# EAGLE library part 057-060- (library con-panduit)
CONNECTOR 60-pin series 057 contact pc board low profile headers
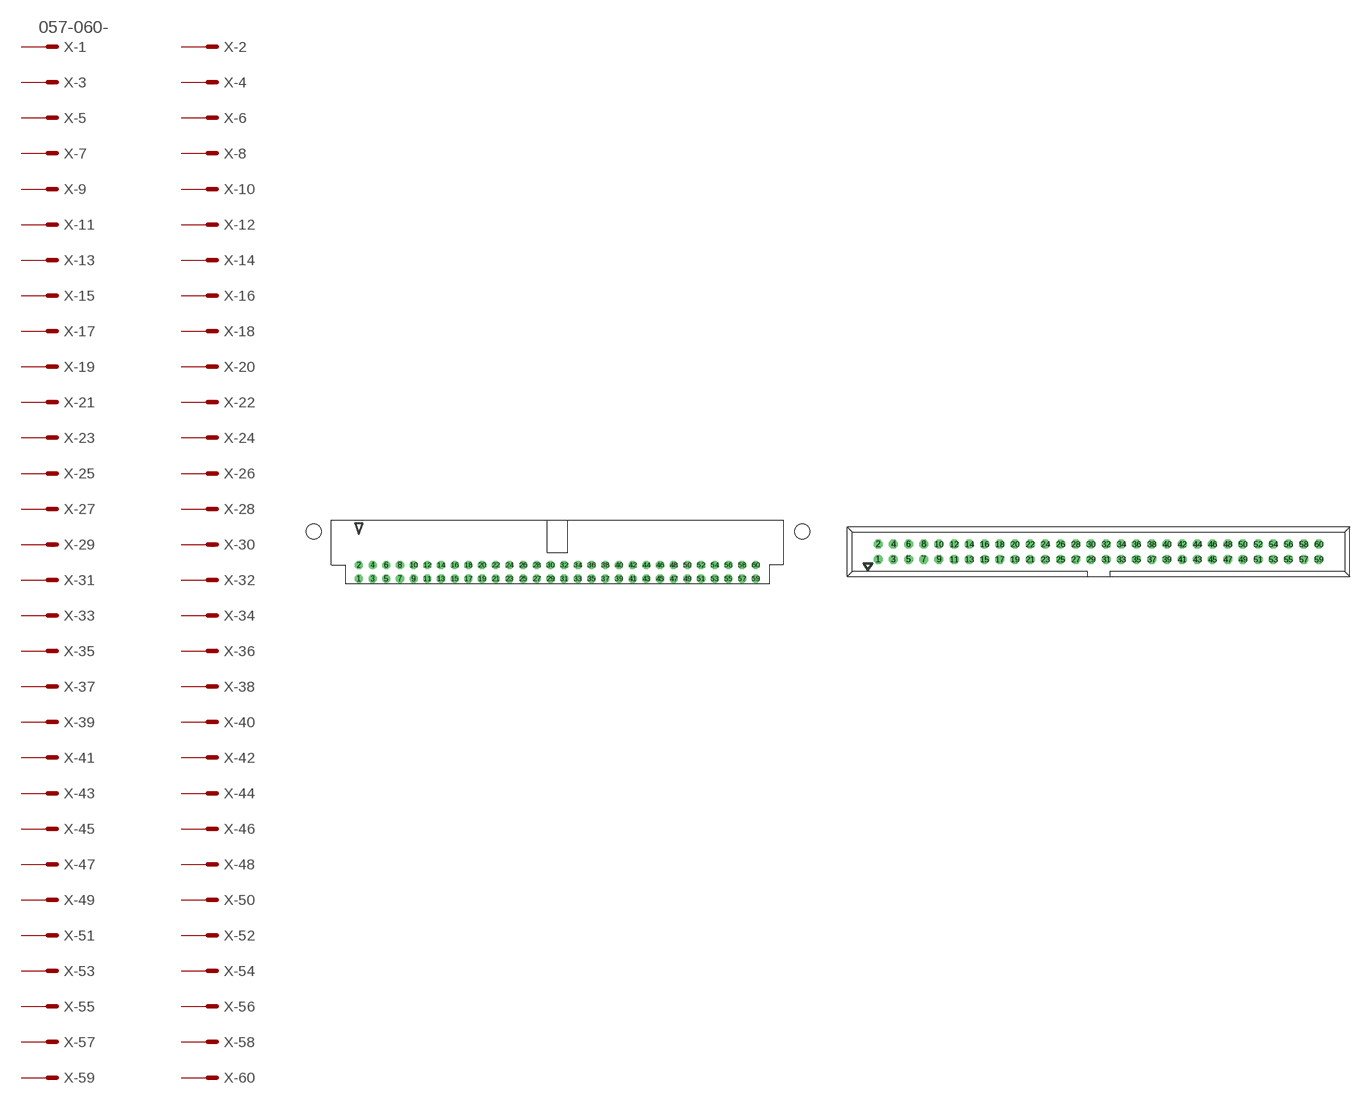
[diagram p1: symbol with the pads of 057-060-0; footprints 057-060-0, 057-060-1]

Designator prefix X; gates -1=MV -2=M -3=M -4=M -5=M -6=M -7=M -8=M -9=M -10=M -11=M -12=M -13=M -14=M -15=M -16=M -17=M -18=M -19=M -20=M -21=M -22=M -23=M -24=M -25=M -26=M -27=M -28=M -29=M -30=M -31=M -32=M -33=M -34=M -35=M -36=M -37=M -38=M -39=M -40=M -41=M -42=M -43=M -44=M -45=M -46=M -47=M -48=M -49=M -50=M -51=M -52=M -53=M -54=M -55=M -56=M -57=M -58=M -59=M -60=M

## 057-060-0 (OC_FARNELL: unknown; OC_NEWARK: unknown)  [057-060-0]
1  -1:S  pas
2  -2:S  pas
3  -3:S  pas
4  -4:S  pas
5  -5:S  pas
6  -6:S  pas
7  -7:S  pas
8  -8:S  pas
9  -9:S  pas
10  -10:S  pas
11  -11:S  pas
12  -12:S  pas
13  -13:S  pas
14  -14:S  pas
15  -15:S  pas
16  -16:S  pas
17  -17:S  pas
18  -18:S  pas
19  -19:S  pas
20  -20:S  pas
21  -21:S  pas
22  -22:S  pas
23  -23:S  pas
24  -24:S  pas
25  -25:S  pas
26  -26:S  pas
27  -27:S  pas
28  -28:S  pas
29  -29:S  pas
30  -30:S  pas
31  -31:S  pas
32  -32:S  pas
33  -33:S  pas
34  -34:S  pas
35  -35:S  pas
36  -36:S  pas
37  -37:S  pas
38  -38:S  pas
39  -39:S  pas
40  -40:S  pas
41  -41:S  pas
42  -42:S  pas
43  -43:S  pas
44  -44:S  pas
45  -45:S  pas
46  -46:S  pas
47  -47:S  pas
48  -48:S  pas
49  -49:S  pas
50  -50:S  pas
51  -51:S  pas
52  -52:S  pas
53  -53:S  pas
54  -54:S  pas
55  -55:S  pas
56  -56:S  pas
57  -57:S  pas
58  -58:S  pas
59  -59:S  pas
60  -60:S  pas

## 057-060-1 (OC_FARNELL: unknown; OC_NEWARK: unknown)  [057-060-1]
Pads as for 057-060-0

## Footprint 057-060-0 (pad centres in mm)
CONNECTOR series 057 contact pc board low profile headers angled
drill 1 octagon: 1 -36.83,-5.08; 2 -36.83,-2.54; 3 -34.29,-5.08; 4 -34.29,-2.54; 5 -31.75,-5.08; 6 -31.75,-2.54; 7 -29.21,-5.08; 8 -29.21,-2.54; 9 -26.67,-5.08; 10 -26.67,-2.54; 11 -24.13,-5.08; 12 -24.13,-2.54; 13 -21.59,-5.08; 14 -21.59,-2.54; 15 -19.05,-5.08; 16 -19.05,-2.54; 17 -16.51,-5.08; 18 -16.51,-2.54; 19 -13.97,-5.08; 20 -13.97,-2.54; 21 -11.43,-5.08; 22 -11.43,-2.54; 23 -8.89,-5.08; 24 -8.89,-2.54; 25 -6.35,-5.08; 26 -6.35,-2.54; 27 -3.81,-5.08; 28 -3.81,-2.54; 29 -1.27,-5.08; 30 -1.27,-2.54; 31 1.27,-5.08; 32 1.27,-2.54; 33 3.81,-5.08; 34 3.81,-2.54; 35 6.35,-5.08; 36 6.35,-2.54; 37 8.89,-5.08; 38 8.89,-2.54; 39 11.43,-5.08; 40 11.43,-2.54; 41 13.97,-5.08; 42 13.97,-2.54; 43 16.51,-5.08; 44 16.51,-2.54; 45 19.05,-5.08; 46 19.05,-2.54; 47 21.59,-5.08; 48 21.59,-2.54; 49 24.13,-5.08; 50 24.13,-2.54; 51 26.67,-5.08; 52 26.67,-2.54; 53 29.21,-5.08; 54 29.21,-2.54; 55 31.75,-5.08; 56 31.75,-2.54; 57 34.29,-5.08; 58 34.29,-2.54; 59 36.83,-5.08; 60 36.83,-2.54
hole 2.8 at -45.23,3.66
hole 2.8 at 45.48,3.66

## Footprint 057-060-1 (pad centres in mm)
CONNECTOR series 057 contact pc board low profile headers straight
drill 1 octagon: 1 -36.83,-1.27; 2 -36.83,1.27; 3 -34.29,-1.27; 4 -34.29,1.27; 5 -31.75,-1.27; 6 -31.75,1.27; 7 -29.21,-1.27; 8 -29.21,1.27; 9 -26.67,-1.27; 10 -26.67,1.27; 11 -24.13,-1.27; 12 -24.13,1.27; 13 -21.59,-1.27; 14 -21.59,1.27; 15 -19.05,-1.27; 16 -19.05,1.27; 17 -16.51,-1.27; 18 -16.51,1.27; 19 -13.97,-1.27; 20 -13.97,1.27; 21 -11.43,-1.27; 22 -11.43,1.27; 23 -8.89,-1.27; 24 -8.89,1.27; 25 -6.35,-1.27; 26 -6.35,1.27; 27 -3.81,-1.27; 28 -3.81,1.27; 29 -1.27,-1.27; 30 -1.27,1.27; 31 1.27,-1.27; 32 1.27,1.27; 33 3.81,-1.27; 34 3.81,1.27; 35 6.35,-1.27; 36 6.35,1.27; 37 8.89,-1.27; 38 8.89,1.27; 39 11.43,-1.27; 40 11.43,1.27; 41 13.97,-1.27; 42 13.97,1.27; 43 16.51,-1.27; 44 16.51,1.27; 45 19.05,-1.27; 46 19.05,1.27; 47 21.59,-1.27; 48 21.59,1.27; 49 24.13,-1.27; 50 24.13,1.27; 51 26.67,-1.27; 52 26.67,1.27; 53 29.21,-1.27; 54 29.21,1.27; 55 31.75,-1.27; 56 31.75,1.27; 57 34.29,-1.27; 58 34.29,1.27; 59 36.83,-1.27; 60 36.83,1.27